# Altium schematic symbol library SCH - MCU - SI LABS - SI LABS EFM32GG11B420F2048GQ64 64-PIN QFP 10X10.SchLib: 1 symbol
Pins are listed as number, name and electrical type; pins without a type are passive.

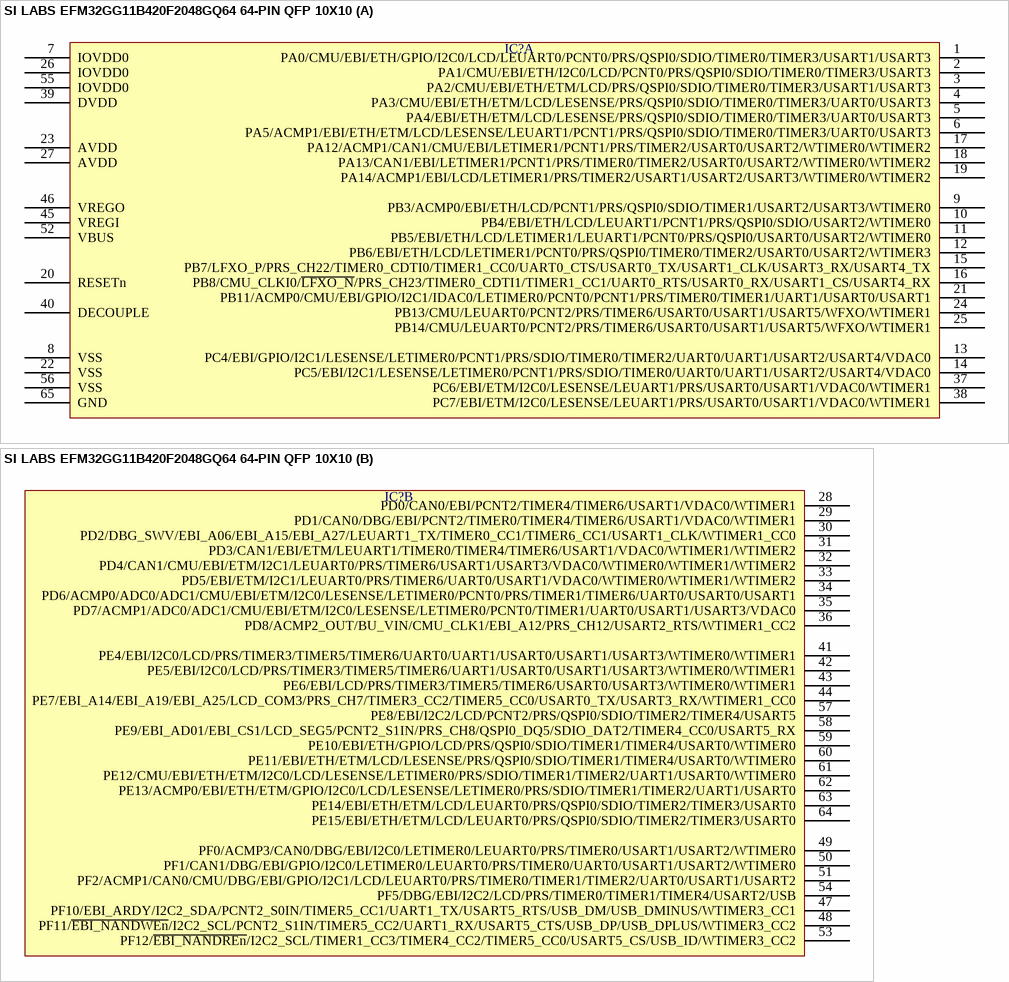
[diagram p0: symbol SI LABS EFM32GG11B420F2048GQ64 64-PIN QFP 10X10]

## SI LABS EFM32GG11B420F2048GQ64 64-PIN QFP 10X10
designator IC?  (value not drawn)
part A pins: 1 PA0/CMU/EBI/ETH/GPIO/I2C0/LCD/LEUART0/PCNT0/PRS/QSPI0/SDIO/TIMER0/TIMER3/USART1/USART3, 2 PA1/CMU/EBI/ETH/I2C0/LCD/PCNT0/PRS/QSPI0/SDIO/TIMER0/TIMER3/USART3, 3 PA2/CMU/EBI/ETH/ETM/LCD/PRS/QSPI0/SDIO/TIMER0/TIMER3/USART1/USART3, 4 PA3/CMU/EBI/ETH/ETM/LCD/LESENSE/PRS/QSPI0/SDIO/TIMER0/TIMER3/UART0/USART3, 5 PA4/EBI/ETH/ETM/LCD/LESENSE/PRS/QSPI0/SDIO/TIMER0/TIMER3/UART0/USART3, 6 PA5/ACMP1/EBI/ETH/ETM/LCD/LESENSE/LEUART1/PCNT1/PRS/QSPI0/SDIO/TIMER0/TIMER3/UART0/USART3, 7 IOVDD0, 8 VSS, 9 PB3/ACMP0/EBI/ETH/LCD/PCNT1/PRS/QSPI0/SDIO/TIMER1/USART2/USART3/WTIMER0, 10 PB4/EBI/ETH/LCD/LEUART1/PCNT1/PRS/QSPI0/SDIO/USART2/WTIMER0, 11 PB5/EBI/ETH/LCD/LETIMER1/LEUART1/PCNT0/PRS/QSPI0/USART0/USART2/WTIMER0, 12 PB6/EBI/ETH/LCD/LETIMER1/PCNT0/PRS/QSPI0/TIMER0/TIMER2/USART0/USART2/WTIMER3, 13 PC4/EBI/GPIO/I2C1/LESENSE/LETIMER0/PCNT1/PRS/SDIO/TIMER0/TIMER2/UART0/UART1/USART2/USART4/VDAC0, 14 PC5/EBI/I2C1/LESENSE/LETIMER0/PCNT1/PRS/SDIO/TIMER0/UART0/UART1/USART2/USART4/VDAC0, 15 PB7/LFXO_P/PRS_CH22/TIMER0_CDTI0/TIMER1_CC0/UART0_CTS/USART0_TX/USART1_CLK/USART3_RX/USART4_TX, 16 PB8/CMU_CLKI0/~{LFXO_N}/PRS_CH23/TIMER0_CDTI1/TIMER1_CC1/UART0_RTS/USART0_RX/USART1_CS/USART4_RX, 17 PA12/ACMP1/CAN1/CMU/EBI/LETIMER1/PCNT1/PRS/TIMER2/USART0/USART2/WTIMER0/WTIMER2, 18 PA13/CAN1/EBI/LETIMER1/PCNT1/PRS/TIMER0/TIMER2/USART0/USART2/WTIMER0/WTIMER2, 19 PA14/ACMP1/EBI/LCD/LETIMER1/PRS/TIMER2/USART1/USART2/USART3/WTIMER0/WTIMER2, 20 RESETn, 21 PB11/ACMP0/CMU/EBI/GPIO/I2C1/IDAC0/LETIMER0/PCNT0/PCNT1/PRS/TIMER0/TIMER1/UART1/USART0/USART1, 22 VSS, 23 AVDD, 24 PB13/CMU/LEUART0/PCNT2/PRS/TIMER6/USART0/USART1/USART5/WFXO/WTIMER1, 25 PB14/CMU/LEUART0/PCNT2/PRS/TIMER6/USART0/USART1/USART5/WFXO/WTIMER1, 26 IOVDD0, 27 AVDD, 37 PC6/EBI/ETM/I2C0/LESENSE/LEUART1/PRS/USART0/USART1/VDAC0/WTIMER1, 38 PC7/EBI/ETM/I2C0/LESENSE/LEUART1/PRS/USART0/USART1/VDAC0/WTIMER1, 39 DVDD, 40 DECOUPLE, 45 VREGI, 46 VREGO, 52 VBUS, 55 IOVDD0, 56 VSS, 65 GND
part B pins: 28 PD0/CAN0/EBI/PCNT2/TIMER4/TIMER6/USART1/VDAC0/WTIMER1, 29 PD1/CAN0/DBG/EBI/PCNT2/TIMER0/TIMER4/TIMER6/USART1/VDAC0/WTIMER1, 30 PD2/DBG_SWV/EBI_A06/EBI_A15/EBI_A27/LEUART1_TX/TIMER0_CC1/TIMER6_CC1/USART1_CLK/WTIMER1_CC0, 31 PD3/CAN1/EBI/ETM/LEUART1/TIMER0/TIMER4/TIMER6/USART1/VDAC0/WTIMER1/WTIMER2, 32 PD4/CAN1/CMU/EBI/ETM/I2C1/LEUART0/PRS/TIMER6/USART1/USART3/VDAC0/WTIMER0/WTIMER1/WTIMER2, 33 PD5/EBI/ETM/I2C1/LEUART0/PRS/TIMER6/UART0/USART1/VDAC0/WTIMER0/WTIMER1/WTIMER2, 34 PD6/ACMP0/ADC0/ADC1/CMU/EBI/ETM/I2C0/LESENSE/LETIMER0/PCNT0/PRS/TIMER1/TIMER6/UART0/USART0/USART1, 35 PD7/ACMP1/ADC0/ADC1/CMU/EBI/ETM/I2C0/LESENSE/LETIMER0/PCNT0/TIMER1/UART0/USART1/USART3/VDAC0, 36 PD8/ACMP2_OUT/BU_VIN/CMU_CLK1/EBI_A12/PRS_CH12/USART2_RTS/WTIMER1_CC2, 41 PE4/EBI/I2C0/LCD/PRS/TIMER3/TIMER5/TIMER6/UART0/UART1/USART0/USART1/USART3/WTIMER0/WTIMER1, 42 PE5/EBI/I2C0/LCD/PRS/TIMER3/TIMER5/TIMER6/UART1/USART0/USART1/USART3/WTIMER0/WTIMER1, 43 PE6/EBI/LCD/PRS/TIMER3/TIMER5/TIMER6/USART0/USART3/WTIMER0/WTIMER1, 44 PE7/EBI_A14/EBI_A19/EBI_A25/LCD_COM3/PRS_CH7/TIMER3_CC2/TIMER5_CC0/USART0_TX/USART3_RX/WTIMER1_CC0, 47 PF10/EBI_ARDY/I2C2_SDA/PCNT2_S0IN/TIMER5_CC1/UART1_TX/USART5_RTS/USB_DM/USB_DMINUS/WTIMER3_CC1, 48 PF11/~{EBI_NANDWEn}/I2C2_SCL/PCNT2_S1IN/TIMER5_CC2/UART1_RX/USART5_CTS/USB_DP/USB_DPLUS/WTIMER3_CC2, 49 PF0/ACMP3/CAN0/DBG/EBI/I2C0/LETIMER0/LEUART0/PRS/TIMER0/USART1/USART2/WTIMER0, 50 PF1/CAN1/DBG/EBI/GPIO/I2C0/LETIMER0/LEUART0/PRS/TIMER0/UART0/USART1/USART2/WTIMER0, 51 PF2/ACMP1/CAN0/CMU/DBG/EBI/GPIO/I2C1/LCD/LEUART0/PRS/TIMER0/TIMER1/TIMER2/UART0/USART1/USART2, 53 PF12/~{EBI_NANDREn}/I2C2_SCL/TIMER1_CC3/TIMER4_CC2/TIMER5_CC0/USART5_CS/USB_ID/WTIMER3_CC2, 54 PF5/DBG/EBI/I2C2/LCD/PRS/TIMER0/TIMER1/TIMER4/USART2/USB, 57 PE8/EBI/I2C2/LCD/PCNT2/PRS/QSPI0/SDIO/TIMER2/TIMER4/USART5, 58 PE9/EBI_AD01/EBI_CS1/LCD_SEG5/PCNT2_S1IN/PRS_CH8/QSPI0_DQ5/SDIO_DAT2/TIMER4_CC0/USART5_RX, 59 PE10/EBI/ETH/GPIO/LCD/PRS/QSPI0/SDIO/TIMER1/TIMER4/USART0/WTIMER0, 60 PE11/EBI/ETH/ETM/LCD/LESENSE/PRS/QSPI0/SDIO/TIMER1/TIMER4/USART0/WTIMER0, 61 PE12/CMU/EBI/ETH/ETM/I2C0/LCD/LESENSE/LETIMER0/PRS/SDIO/TIMER1/TIMER2/UART1/USART0/WTIMER0, 62 PE13/ACMP0/EBI/ETH/ETM/GPIO/I2C0/LCD/LESENSE/LETIMER0/PRS/SDIO/TIMER1/TIMER2/UART1/USART0, 63 PE14/EBI/ETH/ETM/LCD/LEUART0/PRS/QSPI0/SDIO/TIMER2/TIMER3/USART0, 64 PE15/EBI/ETH/ETM/LCD/LEUART0/PRS/QSPI0/SDIO/TIMER2/TIMER3/USART0